# Altium integrated library TSM-103-01-L-SH-TR.IntLib: 1 symbol
Pins are listed as number, name and electrical type; pins without a type are passive.

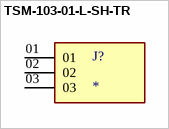
[diagram p0: symbol TSM-103-01-L-SH-TR]

## TSM-103-01-L-SH-TR
designator J?
Connector Header Surface Mount, Right Angle 3 position 0.100 (2.54mm); MF: Samtec Inc.; MP: TSM-103-01-L-SH-TR; SnapEDA_Link: https://www.snapeda.com/parts/TSM-103-01-L-SH-TR/Samtec%20Inc./view-part/2800636/?ref=snap; Price: None; Purchase-URL: https://pricing.snapeda.com/search/part/TSM-103-01-L-SH-TR/?ref=eda; Check_prices: https://www.snapeda.com/parts/TSM-103-01-L-SH-TR/Samtec%20Inc./view-part/2800636/?ref=eda; Package: None; Availability: Warning; Value: *
footprint SAMTEC_TSM-103-01-L-SH-TR
pins: 01, 02, 03